# Altium footprint library Connectors.PcbLib: 51 footprints (part 4 of 4)
Each footprint in its own frame and in the unit in brackets; x right, y up, seen from the top. Pads: shape width x height; smd on the part's side, far side on the other; paste and mask are expansions set on the pad; w line width, h text height; cw(c..) or ccw(c..) is an arc to the next point about the centre after c.
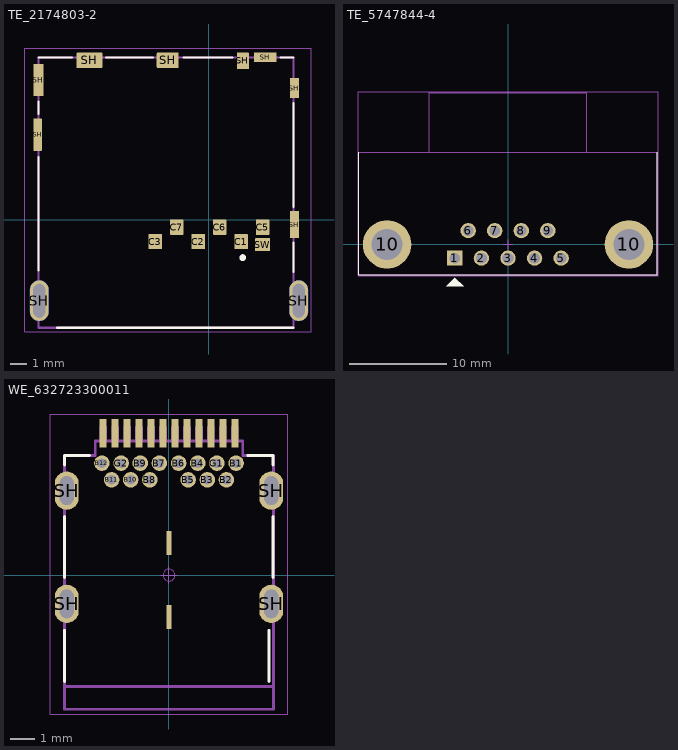
[diagram p3: the footprints below, top view; thin cyan lines are the x and y axes]

## TE_2174803-2 [mm] "CONNECTOR, SIM SOCKET, 6POS, 2.54MM; Connector Type:SIM Socket; Series:2174803;"
pads (17):
  rrect10% 0.8x0.9 smd: C1(1.905,-1.3) C2(-0.635,-1.3) C3(-3.175,-1.3) C5(3.175,-0.45) C6(0.635,-0.45) C7(-1.905,-0.45)
  rrect10% 0.5x1.9 smd: SH(-10.135,5.02)
  rrect10% 0.6x1.9 smd: SH(-10.085,8.25)
  oval 1.1x2.4 hole 0.7 slot 2 at 90 deg: SH(-10.035,-4.8) SH(5.315,-4.8)
  rrect10% 1.53x0.91 smd: SH(-7.07,9.425)
  rrect10% 1.3x0.91 smd: SH(-2.435,9.425)
  rrect10% 0.7x0.98 smd: SH(2.015,9.39)
  rrect10% 1.33x0.55 smd: SH(3.33,9.605)
  rrect10% 0.54x1.6 smd: SH(5.065,-0.3)
  rrect10% 0.54x1.17 smd: SH(5.065,7.785)
  rrect10% 0.9x0.75 smd: SW(3.175,-1.475)
Bottom Layer:
  region: 123 vertices and 1 holes, not listed, extent -10.585,-6 -9.485,-3.6
  region: 125 vertices and 1 holes, not listed, extent 4.765,-6 5.865,-3.6
Top Overlay:
  circle w0.2: c2,-2.25 r0.1
  lines w0.12: -10.085,-3 -10.085,3.7 ; -10.085,6.25 -10.085,7 ; -10.085,9.58 -8.1,9.58 ; -9,-6.4 5.015,-6.4 ; -6.1,9.58 -3.3,9.58 ; -1.5,9.58 1.4,9.58 ; 4.25,9.58 5.015,9.58 ; 5.015,-3.1 5.015,-1.35 ; 5.015,0.75 5.015,6.9
Top Paste:
  drawing of 2 lines, arcs and shapes, not listed
Bottom Paste:
  drawing of 2 lines, arcs and shapes, not listed
Mechanical 11 (Mech11):
  lines w0.127: -10.085,-6.4 -10.085,9.58 5.015,9.58 5.015,-6.4 -10.085,-6.4
  text ".Designator" at -3.96,-1.285 h1.5
Mechanical 15 (Mech15):
  lines w0.05: -10.885,-6.65 -10.885,10.13 6.065,10.13 6.065,-6.65 -10.885,-6.65
3D body "c-2174803-2-p1-3d.stp": height 1.3, standoff -0.59, extent -10.1,-6.4 5.39,9.6

## TE_5747844-4 [mm]
pads (11):
  rect 1.6x1.55 hole 1.1: 1(-5.486,-1.422)
  oval 1.6x1.55 hole 1.1: 2(-2.743,-1.422) 3(0,-1.422) 4(2.743,-1.422) 5(5.486,-1.422) 6(-4.115,1.422) 7(-1.372,1.422) 8(1.372,1.422) 9(4.115,1.422)
  round 5 hole 3.2: 10(-12.497,0) 10(12.497,0)
Top Overlay:
  region: -5.486,-3.422 -6.383,-4.319 -4.589,-4.319
  lines w0.12: -15.405,9.5 -15.405,-3.124 15.405,-3.124 15.405,9.5
Mechanical 11 (Mech11):
  lines w0.12: -8.128,9.5 -8.128,15.672 8.128,15.672 8.128,9.5 ; -15.405,-3.124 -15.405,9.5 15.405,9.5 15.405,-3.124 -15.405,-3.124
  text ".Designator" at -6.759,-0.678 h3
Mechanical 15 (Mech15):
  lines w0.05: -0.5,0 0.5,0 ; 0,-0.5 0,0.5 ; -15.505,-3.224 15.505,-3.224 15.505,15.772 -15.505,15.772 -15.505,-3.224
3D body "c-5747844-04-o-3d.stp": height 12.55, standoff -3.26, extent -15.494,-3.185 15.494,15.71

## WE_632723300011 [mm] "WE 632723300011"
pads (32):
  rrect10% 0.3x1.2 smd mask+0.05: A1(-2.75,5.93) A2(-2.25,5.93) A3(-1.75,5.93) A4(-1.25,5.93) A5(-0.75,5.93) A6(-0.25,5.93) A7(0.25,5.93) A8(0.75,5.93) A9(1.25,5.93) A10(1.75,5.93) A11(2.25,5.93) A12(2.75,5.93)
  round 0.65 hole 0.4 mask+0.05: B1(2.8,4.68) B2(2.4,3.98) B3(1.6,3.98) B4(1.2,4.68) B5(0.8,3.98) B6(0.4,4.68) B7(-0.4,4.68) B8(-0.8,3.98) B9(-1.2,4.68) B10(-1.6,3.98) B11(-2.4,3.98) B12(-2.8,4.68) G1(2,4.68) G2(-2,4.68)
  oval 1x1.6 hole 0.6 slot 1.2 at 90 deg mask+0.05: SH(-4.27,-1.2) SH(-4.27,3.53) SH(4.27,-1.2) SH(4.27,3.53)
  rrect10% 0.2x1 smd mask+0.05: SH(0,-1.75) SH(0,1.35)
Top Overlay:
  lines w0.12: -4.37,-4.45 -4.37,-2.3 ; -4.37,-0.1 -4.37,2.45 ; -4.37,4.6 -4.37,5 -3.32,5 ; 3.29,5 4.34,5 4.34,4.6 ; 4.17,-4.45 4.17,-2.3 ; 4.34,-0.1 4.34,2.45
Mechanical 11:
  lines w0.05: -2.85,5.6 -2.85,6.19 -2.65,6.19 -2.65,5.6 ; -2.35,5.6 -2.35,6.19 -2.15,6.19 -2.15,5.6 ; -1.85,5.6 -1.85,6.19 -1.65,6.19 -1.65,5.6 ; -1.35,5.6 -1.35,6.19 -1.15,6.19 -1.15,5.6 ; -0.85,5.6 -0.85,6.19 -0.65,6.19 -0.65,5.6 ; -0.35,5.6 -0.35,6.19 -0.15,6.19 -0.15,5.6 ; 0.15,5.6 0.15,6.19 0.35,6.19 0.35,5.6 ; 0.65,5.6 0.65,6.19 0.85,6.19 0.85,5.6 ; 1.15,5.6 1.15,6.19 1.35,6.19 1.35,5.6 ; 1.65,5.6 1.65,6.19 1.85,6.19 1.85,5.6 ; 2.15,5.6 2.15,6.19 2.35,6.19 2.35,5.6 ; 2.65,5.6 2.65,6.19 2.85,6.19 2.85,5.6
  lines w0.1: 4.34,-5.6 -4.37,-5.6 -4.37,5 -3.08,5 -3.08,5.6 3.08,5.6 3.08,5 4.37,5 4.37,-5.6
Bottom Courtyard:
  lines w0.12: -4.37,-4.65 4.37,-4.65 ; -2.85,5.6 -2.85,6.19 -2.65,6.19 -2.65,5.6 ; -2.35,5.6 -2.35,6.19 -2.15,6.19 -2.15,5.6 ; -1.85,5.6 -1.85,6.19 -1.65,6.19 -1.65,5.6 ; -1.35,5.6 -1.35,6.19 -1.15,6.19 -1.15,5.6 ; -0.85,5.6 -0.85,6.19 -0.65,6.19 -0.65,5.6 ; -0.35,5.6 -0.35,6.19 -0.15,6.19 -0.15,5.6 ; 0.15,5.6 0.15,6.19 0.35,6.19 0.35,5.6 ; 0.65,5.6 0.65,6.19 0.85,6.19 0.85,5.6 ; 1.15,5.6 1.15,6.19 1.35,6.19 1.35,5.6 ; 1.65,5.6 1.65,6.19 1.85,6.19 1.85,5.6 ; 2.15,5.6 2.15,6.19 2.35,6.19 2.35,5.6 ; 2.65,5.6 2.65,6.19 2.85,6.19 2.85,5.6 ; 4.34,-5.6 -4.37,-5.6 -4.37,5 -3.08,5 -3.08,5.6 3.08,5.6 3.08,5 4.37,5 4.37,-5.6
  text ".Designator" at -5.465,-0.669 h3
  text "PCB Edge" at -1.85,-4.25 h0.61
Mechanical 6:
  circle w0.05: c0,0 r0.25
  lines w0.05: -0.35,0 0.35,0 ; 0,-0.35 0,0.35 ; -4.97,-5.8 -4.97,6.73 4.97,6.73 4.97,-5.8 -4.97,-5.8
3D body "632723300011.stp": height 3.05, standoff -1.81, extent -4.37,-5.6 4.37,6.194